# EAGLE library part NRF24AP2 (library nRF24AP2)
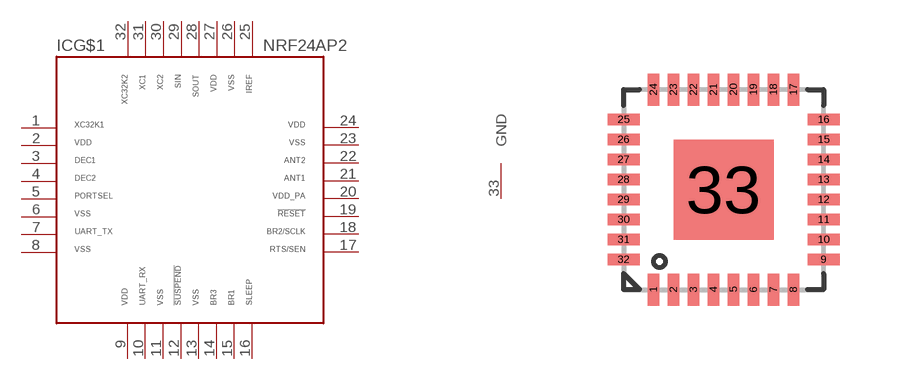
[diagram p0: symbol with the pads of QFN-32; footprint QFN-32]

Designator prefix IC; gates G$1=NRF24AP2 GND=GNDPIN

## NRF24AP2  [QFN-32]
1  G$1:P$1
2  G$1:P$2
3  G$1:P$3
4  G$1:P$4
5  G$1:P$5
6  G$1:P$6
7  G$1:P$7
8  G$1:P$8
9  G$1:P$9
10  G$1:P$10
11  G$1:P$11
12  G$1:P$12
13  G$1:P$13
14  G$1:P$14
15  G$1:P$15
16  G$1:P$16
17  G$1:P$17
18  G$1:P$18
19  G$1:P$19
20  G$1:P$20
21  G$1:P$21
22  G$1:P$22
23  G$1:P$23
24  G$1:P$24
25  G$1:P$25
26  G$1:P$26
27  G$1:P$27
28  G$1:P$28
29  G$1:P$29
30  G$1:P$30
31  G$1:P$31
32  G$1:P$32
33  GND:GND

## Footprint QFN-32 (pad centres in mm)
smd 0.285 x 0.8: 1 -1.75,-2.5; 2 -1.25,-2.5; 3 -0.75,-2.5; 4 -0.25,-2.5; 5 0.25,-2.5; 6 0.75,-2.5; 7 1.25,-2.5; 8 1.75,-2.5; 17 1.75,2.5; 18 1.25,2.5; 19 0.75,2.5; 20 0.25,2.5; 21 -0.25,2.5; 22 -0.75,2.5; 23 -1.25,2.5; 24 -1.75,2.5
smd 0.8 x 0.285: 9 2.5,-1.75; 10 2.5,-1.25; 11 2.5,-0.75; 12 2.5,-0.25; 13 2.5,0.25; 14 2.5,0.75; 15 2.5,1.25; 16 2.5,1.75; 25 -2.5,1.75; 26 -2.5,1.25; 27 -2.5,0.75; 28 -2.5,0.25; 29 -2.5,-0.25; 30 -2.5,-0.75; 31 -2.5,-1.25; 32 -2.5,-1.75
smd 2.5 x 2.5: 33 0,0